# Altium footprint library SN74LVC3G34YZPR.PcbLib: 1 footprints
Each footprint in its own frame and in the unit in brackets; x right, y up, seen from the top. Pads: shape width x height; smd on the part's side, far side on the other; paste and mask are expansions set on the pad; w line width, h text height; cw(c..) or ccw(c..) is an arc to the next point about the centre after c.
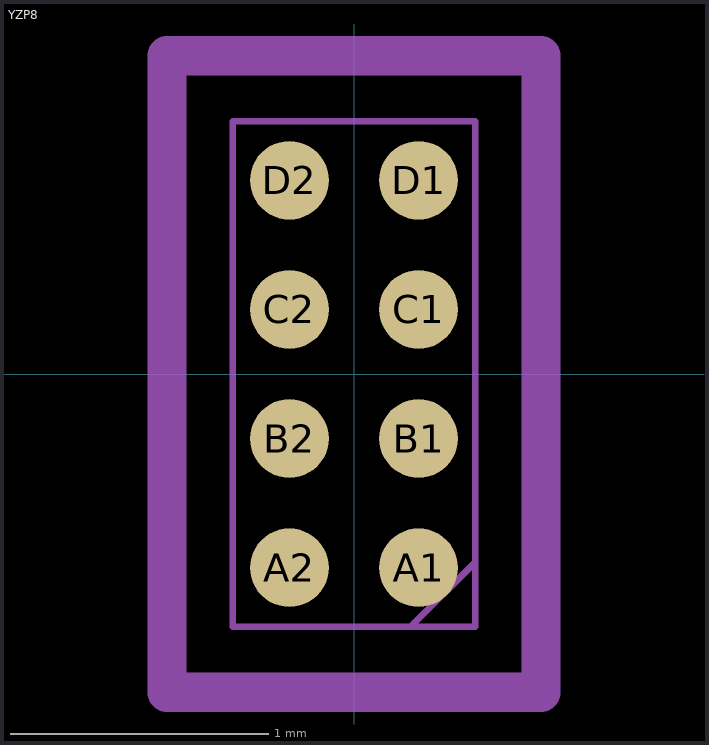
[diagram p0: the footprint, top view; thin cyan lines are the x and y axes]

## YZP8 [mm]
pads (8):
  round 0.305 smd paste+0 mask+0: A1(0.25,-0.75) A2(-0.25,-0.75) B1(0.25,-0.25) B2(-0.25,-0.25) C1(0.25,0.25) C2(-0.25,0.25) D1(0.25,0.75) D2(-0.25,0.75)
Mechanical 13:
  lines w0.025: 0.22,-0.978 0.47,-0.728 ; -0.47,-0.978 -0.47,0.978 0.47,0.978 0.47,-0.978 -0.47,-0.978
Mechanical 15:
  lines w0.152: -0.724,-1.232 0.724,-1.232 0.724,1.232 -0.724,1.232 -0.724,-1.232
3D body "YZP8.step": height 0.51, standoff 0, extent -0.47,-0.978 0.47,0.978